# Altium schematic symbol library ECE453-Interface.SchLib: 29 symbols
Pins are listed as number, name and electrical type; pins without a type are passive.

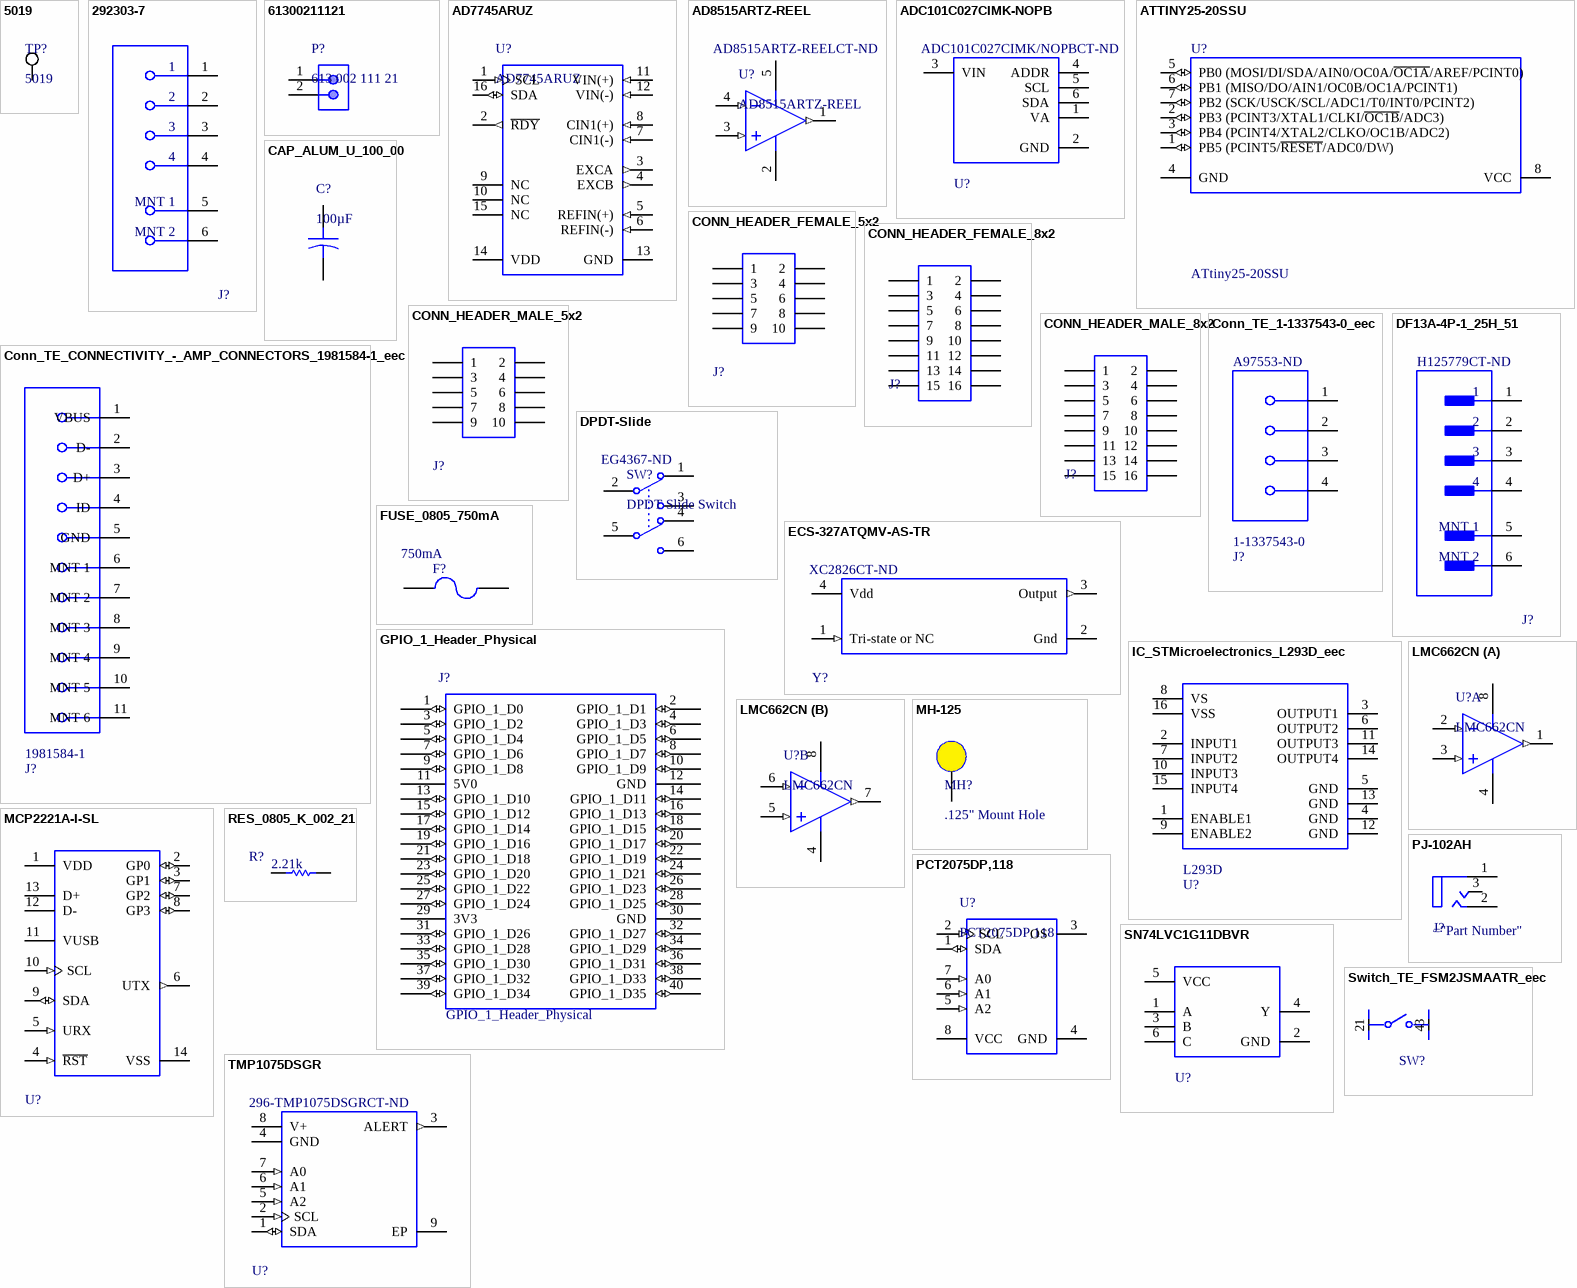
[diagram p0: symbols 5019 to TMP1075DSGR]

## 5019
designator TP?
Test Point, 1 Position SMD, RoHS, Tape and Reel; RoHSCompliant: True; ComponentLink1Description: Manufacturer URL; ComponentLink2Description: Datasheet; Package Quantity: 1000; Mount: Surface Mount; DatasheetVersion: 03/2014; ComponentLink1URL: http://www.keyelco.com/; Packaging: Tape and Reel; Contact Plating: Silver; Pins: 1; Mounting Technology: Surface Mount; PackageDescription: 1-Pin Surface Mount Device, Body 3.81 x 2.03 mm; ComponentLink2URL: http://www.keyelco.com/product-pdf.cfm?p=1357; PackageReference: 5019; PartNumber: 5019
footprint KSTN-5019_V
pins: 1

## 292303-7
designator J?  (value not drawn)
USB 2.0
pins: 1, 2, 3, 4, 5 MNT 1, 6 MNT 2

## 61300211121
designator P?, comment 613 002 111 21
Male Header, Pitch 2.54 mm, 1 x 2 Position, Height 8.54 mm, Tail Length 3 mm, -40 to 105 degC, RoHS, Bulk; ComponentLink1Description: Manufacturer URL; ComponentLink2Description: Datasheet; DatasheetVersion: Rev. J; ComponentLink1URL: https://www.we-online.com/; ComponentLink2URL: http://katalog.we-online.de/em/datasheet/6130xx11121.pdf; Mounting Technology: Through Hole; PackageDescription: Male Header, Pitch 2.54 mm, 1 x 2 Position, Height 8.54 mm, Tail Length 3 mm; PartNumber: 613 002 111 21
footprint WE-61300211121_V
pins: 1, 2

## AD7745ARUZ
designator U?
Single 24-Bit Capacitance-to-Digital Converter with I2C/Ser 2-Wire, Serial Interface and Temperature Sensor, 90SPS, -40 to +125 degC, RU-16, Pb-Free, Tube; Manufacturer: Analog Devices; Generic Part Number: AD7745; Resolution (Bits): 24; Throughput Rate (SPS): 90; Channels: 1; ComponentLink4Description: Product URL; PartNumber: AD7745ARUZ; PackageVersion: Nov-2002; ComponentLink1Description: Manufacturer URL; ComponentLink2Description: Datasheet; DatasheetVersion: Rev.0; ComponentLink3URL: http://www.analog.com/static/imported-files/packages/36244347913743854010197452789RU16.pdf; ComponentLink1URL: http://www.analog.com/en/index.html; Code_JEDEC: MO-153-AB; Packing: Tube; Interface: I2C/Ser 2-Wire, Ser; ComponentLink4URL: http://www.analog.com/en/analog-to-digital-converters/ad-converters/ad7745/products/product.html; ComponentLink2URL: http://www.analog.com/static/imported-files/data_sheets/AD7745_7746.pdf; ComponentLink3Description: Package Specification; RoHS: Y; Mounting Technology: Surface Mount; PackageReference: RU-16; PackageDescription: 16-Lead Thin Shrink Small Outline Package [TSSOP]
footprint RU-16_M
footprint RU-16_N
footprint RU-16_L
pins: 1 SCL (in) "Serial Interface Clock Input. Connects to the master clock line. Requires pull-up resistor if not already provided in the system.", 2 ~{RDY} (out) "Logic Output. A falling edge on this output indicates that a conversion on enabled channel(s) has been finished and the new data is available. Alternatively, the status register can be read via the 2-wire serial interface (See Datasheet)", 3 EXCA (out) "CDC Excitation Outputs. The measured capacitance is connected between one of the EXC pins and one of the CIN pins. If not used, these pins should be left as an open circuit.", 4 EXCB (out) "CDC Excitation Outputs. The measured capacitance is connected between one of the EXC pins and one of the CIN pins. If not used, these pins should be left as an open circuit.", 5 REFIN(+) (in) "Differential Voltage Reference Input for the Voltage Channel (ADC). Alternatively, the on-chip internal reference can be used for the voltage channel. These reference input pins are not used for conversion on capacitive (See Datasheet)", 6 REFIN(-) (in) "Differential Voltage Reference Input for the Voltage Channel (ADC). Alternatively, the on-chip internal reference can be used for the voltage channel. These reference input pins are not used for conversion on capacitive (See Datasheet)", 7 CIN1(-) (in) "CDC Negative Capacitive Input in Differential Mode. This pin is internally disconnected in single-ended CDC configuration. If not used, this pin can be left as an open circuit or connected to GND.", 8 CIN1(+) (in) "CDC Capacitive Input (in Single-Ended Mode) or Positive Capacitive Input (in Differential Mode). The measured capacitance is connected between one of the EXC pins and one of the CIN pins. If not used, this pin can be left as (See Datasheet)", 9 NC "Not Connected. This pin should be left as an open circuit.", 10 NC "Not Connected. This pin should be left as an open circuit.", 11 VIN(+) (in) "Differential Voltage Input for the Voltage Channel (ADC). These pins are also used to connect an external temperature sensing diode. If not used, these pins can be left as an open circuit or connected to GND.", 12 VIN(-) (in) "Differential Voltage Input for the Voltage Channel (ADC). These pins are also used to connect an external temperature sensing diode. If not used, these pins can be left as an open circuit or connected to GND.", 13 GND (power) "Ground Pin.", 14 VDD (power) "Power Supply Voltage. This pin should be decoupled to GND, using a low impedance capacitor, for example in combination with a 10 uF tantalum and a 0.1 uF multilayer ceramic.", 15 NC "Not Connected. This pin should be left as an open circuit.", 16 SDA (io) "Serial Interface Bidirectional Data. Connects to the master data line. Requires a pull-up resistor if not provided elsewhere in the system."

## AD8515ARTZ-REEL
designator U?  Supplier Part Number 1: AD8515ARTZ-REELCT-ND
Single Channel RRIO Operational Amplifier, 5 MHz BW, 2.7 V/us SR, Industrial, 5-pin SOT23 (RJ-5), Reel; Generic Part Number: AD8515; Manufacturer: Analog Devices; Amplifiers Per Package: 1; Small Signal Bandwidth: 5MHz; V Span Min: 1.8V; Iq/Amp: 500uA; Input Bias Current: 2pA; V Span Max: 6V; Input Offset Voltage: 1mV; ComponentLink4Description: URL Link1; PartNumber: AD8515ARTZ-REEL; ComponentLink1Description: Manufacturer URL; ComponentLink2Description: Datasheet; DatasheetVersion: Rev. D; ComponentLink3URL: http://www.analog.com/static/imported-files/packages/PKG_PDF/SOT-23(RJ)/RJ_5.pdf; ComponentLink3Description: Package Specification; ComponentLink1URL: http://www.analog.com/en/index.html; Code_JEDEC: MO-178-AA; ComponentLink4URL: Reference Circuit:http://www.analog.com/en/all-operational-amplifiers-op-amps/operational-amplifiers-op-amps/ad8515/products/product.html#product-recommendations; ComponentLink2URL: http://www.analog.com/static/imported-files/data_sheets/AD8515.pdf; PackageVersion: 121608-A; Slew Rate: 2.7V/us; Mounting Technology: Surface Mount; PackageReference: RJ-5; PackageDescription: 5-Pin Small Outline Transistor Package, Body 2.9 x 1.6 mm, Pitch 0.95 mm; Supplier 1: Digi-Key
footprint ADI-RJ-5_L
footprint ADI-RJ-5_M
footprint ADI-RJ-5_L (amplify capicatance signal)
pins: 1 OUT (out), 2 -V (power), 3 +IN (in), 4 -IN (in), 5 +V (power)

## ADC101C027CIMK-NOPB
designator U?  Supplier Part Number 1: ADC101C027CIMK/NOPBCT-ND  (hidden comment: *)
a2d for pH; Supplier 1: Digi-Key
footprint Texas_Instruments_DDC0006A_0 (a2d for ph)
pins: 1 VA, 2 GND, 3 VIN, 4 ADDR, 5 SCL, 6 SDA

## ATTINY25-20SSU
designator U?, comment ATtiny25-20SSU
8-bit AVR Microcontroller, 2.7-5.5V, 2KB Flash, 128 Bytes EEPROM, 128 Bytes SRAM, 8-pin SOIC, Industrial Grade (-40°C to 85°C), Pb-Free; DatasheetVersion: revK, Jan-2008; Code_JEDEC: MS-012; Code_IPC: SOIC127P600-8; PackageVersion: revA, Oct-2001; PackageDescription: 8-Lead (0.150" Wide Body), Plastic Gull Wing Small Outline (JEDEC SOIC); PackageReference: S8S1; PartNumber: ATTINY25-20SSU
footprint S8S1_M
footprint S8S1_N (moisture sensor mcu)
pins: 1 PB5 (PCINT5/~{RESET}/ADC0/DW) (io), 2 PB3 (PCINT3/XTAL1/CLKI/~{OC1B}/ADC3) (io), 3 PB4 (PCINT4/XTAL2/CLKO/OC1B/ADC2) (io), 4 GND (power), 5 PB0 (MOSI/DI/SDA/AIN0/OC0A/~{OC1A}/AREF/PCINT0) (io), 6 PB1 (MISO/DO/AIN1/OC0B/OC1A/PCINT1) (io), 7 PB2 (SCK/USCK/SCL/ADC1/T0/INT0/PCINT2) (io), 8 VCC (power)

## CAP_ALUM_U_100_00
designator C?, comment 100µF
CAP ALUM 100UF 20% 10V SMD; Manufacturer: Panasonic Electronic Components; Manufacturer Part Number: EEE-1AA101WR; Lifetime @ Temp.: 1000 Hrs @ 85°C; Ripple Current: 50mA; Surface Mount Land Size: 0.209" L x 0.209" W (5.30mm x 5.30mm); Supplier 1: Digi-Key; Supplier Part Number 1: PCE3867CT-ND; RoHS: RoHS Compliant; Category: Capacitors; Stock 1: 104778; Pricing 1: 1=0.44, 10=0.345, 25=0.2904, 50=0.249, 100=0.2076, 250=0.15568, 500=0.13284 (USD); Packaging: Cut Tape (CT); Value: 100µF; Tolerance: ±20%; Voltage Rating: 10V; ESR (Equivalent Series Resistance): -; Operating Temperature: -40°C ~ 85°C; Type: -; Applications: Automotive; Impedance: -; Lead Spacing: -; Size / Dimension: 0.197" Dia (5.00mm); Height - Seated (Max): 0.213" (5.40mm); Mounting Type: Surface Mount; Package / Case: Radial, Can - SMD; ComponentLink1URL: http://media.digikey.com/pdf/Data%20Sheets/Panasonic%20Electronic%20Components/S_Series_Type_V.pdf; ComponentLink1Description: http://media.digikey.com/pdf/Data%20Sheets/Panasonic%20Electronic%20Components/S_Series_Type_V.pdf
footprint PANACAP-C
pins: + 1, - 2

## CONN_HEADER_FEMALE_5x2
designator J?  (value not drawn)
CONN HEADER 2.54MM 10POS GOLD; Manufacturer Part Number: SBH11-PBPC-D05-ST-BK; Manufacturer: Sullins Connector Solutions; Pitch: 0.100" (2.54mm); Number of Positions: 10; Number of Positions Loaded: All; Connector Type: Header, Shrouded; Contact Mating Length: -; Fastening Type: -; Termination: Solder; Mounting Type: Through Hole; Color: Black; Contact Finish Thickness: Flash; Row Spacing: 0.100" (2.54mm); Contact Finish: Gold; Number of Rows: 2; Features: Polarizing Key; Contact Type: Male Pin; Supplier: Digi-Key; Category: Connectors, Interconnects; Packaging: Tray; Part Status: Active; RoHS: RoHS Compliant; Supplier Part Number: S9169-ND
footprint SFH11-PBPC-D05-ST-BK (CONN HEADR FMALE 10POS .1" DL AU)
pins: 1, 2, 3, 4, 5, 6, 7, 8, 9, 10

## CONN_HEADER_FEMALE_8x2
designator J?  (value not drawn)
CONN HEADER 2.54MM 16POS GOLD; Manufacturer: Sullins Connector Solutions; Manufacturer Part Number: SBH11-PBPC-D08-ST-BK; Pitch: 0.100" (2.54mm); Number of Positions Loaded: All; Number of Positions: 16; Connector Type: Header, Shrouded; Contact Finish Thickness: Flash; Contact Mating Length: -; Fastening Type: -; Contact Finish: Gold; Packaging: Tray; Row Spacing: 0.100" (2.54mm); RoHS: RoHS Compliant; Contact Type: Male Pin; Category: Connectors, Interconnects; Part Status: Active; Features: Polarizing Key; Color: Black; Mounting Type: Through Hole; Supplier: Digi-Key; Termination: Solder; Number of Rows: 2; Supplier Part Number: S9171-ND
footprint SFH11-PBPC-D08-ST-BK (CONN HEADR FMALE 16POS .1" DL AU)
pins: 1, 2, 3, 4, 5, 6, 7, 8, 9, 10, 11, 12, 13, 14, 15, 16

## CONN_HEADER_MALE_5x2
designator J?  (value not drawn)
CONN HEADER 2.54MM 10POS GOLD; Manufacturer Part Number: SBH11-PBPC-D05-ST-BK; Manufacturer: Sullins Connector Solutions; Pitch: 0.100" (2.54mm); Number of Positions: 10; Number of Positions Loaded: All; Connector Type: Header, Shrouded; Contact Mating Length: -; Fastening Type: -; Termination: Solder; Mounting Type: Through Hole; Color: Black; Contact Finish Thickness: Flash; Row Spacing: 0.100" (2.54mm); Contact Finish: Gold; Number of Rows: 2; Features: Polarizing Key; Contact Type: Male Pin; Supplier: Digi-Key; Category: Connectors, Interconnects; Packaging: Tray; Part Status: Active; RoHS: RoHS Compliant; Supplier Part Number: S9169-ND
footprint SBH11-PBPC-D05-ST-BK (Connector; Header; 5x2 Position)
pins: 1, 2, 3, 4, 5, 6, 7, 8, 9, 10

## CONN_HEADER_MALE_8x2
designator J?  (value not drawn)
CONN HEADER 2.54MM 16POS GOLD; Manufacturer: Sullins Connector Solutions; Manufacturer Part Number: SBH11-PBPC-D08-ST-BK; Pitch: 0.100" (2.54mm); Number of Positions Loaded: All; Number of Positions: 16; Connector Type: Header, Shrouded; Contact Finish Thickness: Flash; Contact Mating Length: -; Fastening Type: -; Contact Finish: Gold; Packaging: Tray; Row Spacing: 0.100" (2.54mm); RoHS: RoHS Compliant; Contact Type: Male Pin; Category: Connectors, Interconnects; Part Status: Active; Features: Polarizing Key; Color: Black; Mounting Type: Through Hole; Supplier: Digi-Key; Termination: Solder; Number of Rows: 2; Supplier Part Number: S9171-ND
footprint SBH11-PBPC-D08-ST-BK (Connector; Header; 8x2 Position)
pins: 1, 2, 3, 4, 5, 6, 7, 8, 9, 10, 11, 12, 13, 14, 15, 16

## Conn_TE_1-1337543-0_eec
designator J?  Part Number: 1-1337543-0  Supplier Part Number 1: A97553-ND
CONN BNC JACK R/A 50 OHM PCB; Manufacturer: TE; Is Female: yes; Category 7E2Eb3244B2Ba5E9: RF/Coaxial; Category 75Fab8F04590Ae3D: Connectors and Adapters; Num Pins: 2; Category 0836C53C3D42D3F1: Connectors; helpURL: https://upverter.com/upn/revision/e21dde95074d668f/; ComponentLink2Description: Datasheet; Temperature: -55°C to +85°C; Package: BNC_PTH_14MM7_34MM9; Price: 1.52364979765; ComponentLink1URL: https://upverter.com/upn/revision/e21dde95074d668f/; ComponentLink1Description: Upverter; ComponentLink2URL: http://www.te.com/commerce/DocumentDelivery/DDEController?Action=showdoc&DocId=Customer+Drawing%7F1337543%7FG%7Fpdf%7FEnglish%7FENG_CD_1337543_G.pdf%7F1-1337543-0; RoHS: TRUE; Mouser Part Number: 571-1-1337543-0; Temperature Range High: +85°C; Digikey Description: CONN BNC JACK R/A 50 OHM PCB; Digikey Part Number: A97553-ND; Lead Free: yes; Category 56939B9963988D54: BNC; Temperature Range Low: -55°C; Mounting Type: pc board; Octopart Part Number: b01d790ac89a6fda; Supplier 1: Digi-Key
footprint TE_1-1337543-0_0
footprint TE_1-1337543-0_0 (bnc connector)
pins: 1, 2, 3 MNT 1, 4 MNT 2

## Conn_TE_CONNECTIVITY_-_AMP_CONNECTORS_1981584-1_eec
designator J?  Part Number: 1981584-1
Micro USB2.0; Manufacturer: TE CONNECTIVITY - AMP CONNECTORS; Voltage: 30V; Is Female: yes; helpURL: https://upverter.com/upn/revision/dedb0eacb1b6d15a/; ComponentLink2Description: Datasheet; Temperature: to; Package: CONN_USB_SMT; Supplier 2: Mouser; Price: 1.40015774577; Supplier 1: Digi-Key; ComponentLink1URL: https://upverter.com/upn/revision/dedb0eacb1b6d15a/; Supplier Part Number 1: A97799CT-ND; ComponentLink1Description: Upverter; ComponentLink2URL: http://www.te.com/commerce/DocumentDelivery/DDEController?Action=srchrtrv&DocNm=1981584&DocType=Customer+Drawing&DocLang=English; RoHS: UNKNOWN; Mouser Part Number: 571-1981584-1; Operating Temperature Low: -30°C; Digikey Part Number:: A97799CT-ND; Operating Temperature High: 85°C
footprint TE_CONNECTIVITY_-_AMP_CONNECTORS_1981584-1_0
pins: 1 VBUS, 2 D-, 3 D+, 4 ID, 5 GND, 6 MNT 1, 7 MNT 2, 8 MNT 3, 9 MNT 4, 10 MNT 5, 11 MNT 6

## DF13A-4P-1_25H_51
designator J?  Supplier Part Number 1: H125779CT-ND  (hidden comment: *)
4 pin df13; Supplier 1: Digi-Key
footprint Hirose_0_MFG (4 pin df13)
pins: 1, 2, 3, 4, 5 MNT 1, 6 MNT 2

## DPDT-Slide
designator SW?, comment DPDT Slide Switch  Supplier Part Number 1: EG4367-ND
Manufacturer: E-Switch; Manufacturer Part Number: EG2219; Contact Timing: Non-Shorting (BBM); Switch Function: On-On; Current Rating: 500mA (DC); Voltage Rating - DC: 15V; Actuator Type: Standard; Actuator Length: 9.00mm; Switch Travel: 4.00mm; Operating Force: 250gf; Supplier 1: Digi-Key; RoHS: RoHS Compliant; Category: Switches; Stock 1: 488; Pricing 1: 1=0.8, 10=0.768, 25=0.752, 50=0.672, 100=0.64, 250=0.624, 500=0.528, 1000=0.512, 5000=0.448 (USD); Packaging: Bulk; Part Status: Active; Circuit: DPDT; Voltage Rating - AC: -; Contact Material: Copper Alloy; Contact Finish: Silver; Mounting Type: Through Hole, Right Angle; Termination Style: PC Pin; Features: -; Actuator Material: -; Operating Temperature: -20°C ~ 70°C; Mechanical Life: -; Electrical Life: -; ComponentLink1URL: http://spec_sheets.e-switch.com/specs/P040170.pdf; ComponentLink1Description: http://spec_sheets.e-switch.com/specs/P040170.pdf
footprint SLIDE6X4X2.5 (E-Switch EG2219)
pins: 1, 2 C, 3, 4, 5 C, 6

## ECS-327ATQMV-AS-TR
designator Y?  Supplier Part Number 1: XC2826CT-ND  (hidden comment: *)
crystal oscillator; Supplier 1: Digi-Key
footprint ECS_327ATQMV_MFG (crystal)
pins: 1 Tri-state or NC (in), 2 Gnd (power), 3 Output (out), 4 Vdd (power)

## FUSE_0805_750mA
designator F?, comment 750mA
PTC RESTTBLE 0.75A 6V CHIP 0805; Manufacturer: Bel Fuse Inc.; Manufacturer Part Number: 0ZCK0075FF2E; Current - Max: 40A; Current - Trip (It): 1.5A; R Min/Max: 0.090 ~ 0.350 Ohm; Time to Trip: 0.2s; Supplier 1: Digi-Key; Supplier Part Number 1: 507-1814-1-ND; RoHS: RoHS Compliant; Category: Circuit Protection; Stock 1: 18309; Pricing 1: 1=0.19, 10=0.176, 25=0.1628, 100=0.1463, 250=0.13028, 500=0.10858, 1000=0.10288 (USD); Packaging: Cut Tape (CT); Voltage - Max: 6V; Package / Case: 0805 (2012 Metric), Concave; ComponentLink1URL: http://www.belfuse.com/pdfs/0ZCK.pdf; ComponentLink1Description: http://www.belfuse.com/pdfs/0ZCK.pdf; Current - Hold (Ih) (Max): 750mA
footprint FUSE_0805 (Chip Fuse, 2-Leads, Body 2.15x1.35mm, IPC Low Density)
pins: 1, 2

## GPIO_1_Header_Physical
designator J?  value GPIO_1_Header_Physical
2x20 Polarized Female .100" Connector; Manufacturer: Sullins Connector Solutions; Manufacturer Part Number: SFH11-PBPC-D20-ST-BK; Connector Type: Header; Number of Positions: 40; Number of Positions Loaded: All; Pitch: 0.100" (2.54mm); Supplier 1: Digi-Key; Supplier Part Number 1: S9200-ND; RoHS: RoHS Compliant; Category: Connectors, Interconnects; Stock 1: 3855; Pricing 1: 1=2.31, 10=1.913, 25=1.7932, 50=1.594, 100=1.4346, 250=1.32304, 500=1.1955, 1000=1.06001, 2500=1.01618 (USD); Packaging: Tray; Contact Type: Female Socket; Number of Rows: 2; Row Spacing: 0.100" (2.54mm); Mounting Type: Through Hole; Termination: Solder; Fastening Type: -; Features: Polarizing Key; Contact Finish: Gold; Contact Finish Thickness: Flash; Color: Black; ComponentLink1URL: http://sullinscorp.com/catalogs/146_PAGE119_.100_SFH11_SERIES_FEMALE_HDR_ST_RA.pdf; ComponentLink1Description: http://sullinscorp.com/catalogs/146_PAGE119_.100_SFH11_SERIES_FEMALE_HDR_ST_RA.pdf
footprint DIP40
pins: 1 GPIO_1_D0 (io), 2 GPIO_1_D1 (io), 3 GPIO_1_D2 (io), 4 GPIO_1_D3 (io), 5 GPIO_1_D4 (io), 6 GPIO_1_D5 (io), 7 GPIO_1_D6 (io), 8 GPIO_1_D7 (io), 9 GPIO_1_D8 (io), 10 GPIO_1_D9 (io), 11 5V0, 12 GND (power), 13 GPIO_1_D10 (io), 14 GPIO_1_D11 (io), 15 GPIO_1_D12 (io), 16 GPIO_1_D13 (io), 17 GPIO_1_D14 (io), 18 GPIO_1_D15 (io), 19 GPIO_1_D16 (io), 20 GPIO_1_D17 (io), 21 GPIO_1_D18 (io), 22 GPIO_1_D19 (io), 23 GPIO_1_D20 (io), 24 GPIO_1_D21 (io), 25 GPIO_1_D22 (io), 26 GPIO_1_D23 (io), 27 GPIO_1_D24 (io), 28 GPIO_1_D25 (io), 29 3V3, 30 GND (power), 31 GPIO_1_D26 (io), 32 GPIO_1_D27 (io), 33 GPIO_1_D28 (io), 34 GPIO_1_D29 (io), 35 GPIO_1_D30 (io), 36 GPIO_1_D31 (io), 37 GPIO_1_D32 (io), 38 GPIO_1_D33 (io), 39 GPIO_1_D34 (io), 40 GPIO_1_D35 (io)

## IC_STMicroelectronics_L293D_eec
designator U?  Part Number: L293D
4-Channel Motor Driver 24V 16-Pin Power DIP Tube; Manufacturer: STMicroelectronics; Category 9E07530Daf1645C0: Semiconductors and Actives; Category 45Fa88F0772B9E3D: Half Bridges; Category 20B3Edb914A9Fb74: Uncategorized; Category 2Fc5E2Cf1B85F402: Interface ICs; Category 56439B4967F48D84: Power Management; Category D2Bc1Fb6E06F097B: Solid State Switches; Symbol 0 0: Standard; Num Pins: 16; Max Supply Voltage: 36V; Min Supply Voltage: 4.5V; Number of Outputs: 4; Output Current: 600mA; Max Output Current: 1.2A; Motor Type: Brushed; Operating Supply Current: 2mA; Power Dissipation: 4W; helpURL: https://upverter.com/upn/revision/e6134e389598ca22/; ComponentLink2Description: Datasheet; Temperature: -40°C to +150°C; Package: Powerdip (12+2+2); Supplier 2: Mouser; Price: 2.80087938713; Supplier 1: Digi-Key; ComponentLink1URL: https://upverter.com/upn/revision/e6134e389598ca22/; Supplier Part Number 2: 511-L293D; Supplier Part Number 1: 497-2936-5-ND; ComponentLink1Description: Upverter; ComponentLink2URL: https://upverter.com/datasheet/69b4bfb6eef435fc169310577e03cbf66990c4fa.pdf; RoHS: TRUE; Mouser Part Number: 511-L293D; Ipc Land Pattern Name: DIP880W50P254L2000H510Q16; Category 84F649Fcb0Ed5F31: Uncategorized; Octopart Part Number: 81d548d881985e12; Temperature Range High: +150°C; Digikey Description: IC Bipolar Motor Driver Parallel 16-PowerDIP; Digikey Part Number: 497-2936-5-ND; Type: integrated circuit; Lead Free: yes; Temperature Range Low: -40°C; Mounting Type: Through Hole; Manufacturer Part Number: L293D; Category: Motor Drivers; Stock 1: 710; Pricing 1: 1=4.15000, 10=3.72300, 25=3.52000, 100=2.95180 (USD); Mount: Through Hole; Case/Package: DIP; Number of Pins: 16; Min Operating Temperature: -40°C; Max Operating Temperature: 150°C; Package Quantity: 25; Packaging: Rail/Tube; Operating Supply Voltage: 24V; Series: -; Output Current per Channel: 600mA; Number of Channels: 4; Max Collector Current: 600mA; Collector Emitter Voltage (VCEO): 36V; Length: 20mm; Width: 7.1mm; Height: 5.1mm; Radiation Hardening: No; RoHS Compliant: Yes; ComponentLink3URL: https://datasheet.ciiva.com/15109/getdatasheetpartid-121660-15109379.pdf?src-supplier=Verical; ComponentLink3Description: https://datasheet.ciiva.com/15109/getdatasheetpartid-121660-15109379.pdf?src-supplier=Verical; ComponentLink4URL: https://datasheet.ciiva.com/14150/ocl293d-647107-dat-en-14150297.pdf?src-supplier=Distrelec; ComponentLink4Description: https://datasheet.ciiva.com/14150/ocl293d-647107-dat-en-14150297.pdf?src-supplier=Distrelec; ComponentLink5URL: https://datasheet.ciiva.com/26347/82-0192-26347871.pdf?src-supplier=Rapid+Electronics; ComponentLink5Description: https://datasheet.ciiva.com/26347/82-0192-26347871.pdf?src-supplier=Rapid+Electronics; ComponentLink6URL: https://datasheet.ciiva.com/29307/156134-da-01-en-4-kanal-treiber-ic-l293d-stm-29307000.pdf?src-supplier=Conrad; ComponentLink6Description: https://datasheet.ciiva.com/29307/156134-da-01-en-4-kanal-treiber-ic-l293d-stm-29307000.pdf?src-supplier=Conrad; ComponentLink7URL: https://datasheet.ciiva.com/1955/cd00000059-1955400.pdf?src-supplier=Digi-Key; ComponentLink7Description: https://datasheet.ciiva.com/1955/cd00000059-1955400.pdf?src-supplier=Digi-Key; ComponentLink8URL: https://datasheet.ciiva.com/4895/cd00000059-4895945.pdf?src-supplier=Mouser; ComponentLink8Description: https://datasheet.ciiva.com/4895/cd00000059-4895945.pdf?src-supplier=Mouser; ComponentLink9URL: https://datasheet.ciiva.com/16458/cd00000059-16458220.pdf?src-supplier=Future+Electronics; ComponentLink9Description: https://datasheet.ciiva.com/16458/cd00000059-16458220.pdf?src-supplier=Future+Electronics
footprint STMicroelectronics_L293D_0
pins: 1 ENABLE1, 2 INPUT1, 3 OUTPUT1, 4 GND, 5 GND, 6 OUTPUT2, 7 INPUT2, 8 VS, 9 ENABLE2, 10 INPUT3, 11 OUTPUT3, 12 GND, 13 GND, 14 OUTPUT4, 15 INPUT4, 16 VSS

## LMC662CN
designator U?
CMOS Dual Operational Amplifier, 8-pin MDIP; Manufacturer: National Semiconductor; PackageTopMarking: NSUZXYTTE#*LMC*662CN; PowerWise: N; CompType: Amplifiers; PinCount: 8; DatasheetVersion: Apr-2003; Code_JEDEC: MS-001-BA; PackageVersion: revG, May-2006; PackageReference: N08E; PackageDescription: MDIP, .365 x .250 x .130in, 8 Lead, .100in Pitch; RoHS: N; PartNumber: LMC662CN
footprint N08E
pins on every part: 4 V- (power), 8 V+ (power)
part A pins: 1 OUTA (out), 2 INA- (in), 3 INA+ (in)
part B pins: 5 INB+ (in), 6 INB- (in), 7 OUTB (out)

## MCP2221A-I-SL
designator U?  (value not drawn)
USB to UART
pins: 1 VDD (power), 2 GP0 (io), 3 GP1 (io), 4 ~{RST} (in), 5 URX (in), 6 UTX (out), 7 GP2 (io), 8 GP3 (io), 9 SDA (io), 10 SCL (in), 11 VUSB (power), 12 D- (power), 13 D+ (power), 14 VSS (power)

## MH-125
designator MH?, comment .125" Mount Hole
.125" Mount Hole with .300" Keepout
footprint MTHOLE_125-300KeepOut (0.125 in Hole w 0.300 Keep Out)
pins: 1 "Pin 1"

## PCT2075DP,118
designator U?
I2C-Bus Fm+, 1 Degree C Accuracy, Digital Temperature Sensor and Thermal Watchdog, 2.7 to 5.5 V Supply, -55 to 125 degC, 8-Pin SOT505-1, RoHS, Reel; Manufacturer: NXP Semiconductors; Accuracy on-chip (degC): 1@-25 to 100 / 2@-55 to 125; SMBus clock (kHz): 1000; Assignable addresses: 27; ComponentLink1Description: Manufacturer URL; Operating Voltage (VDC): 2.7 to 5.5; ComponentLink2Description: Datasheet; PartNumber: PCT2075DP,118; ComponentLink3Description: Package Specification; PackageReference: SOT505-1; ComponentLink3URL: http://www.nxp.com/documents/outline_drawing/sot505-1_po.pdf; DatasheetVersion: Rev. 7; ComponentLink1URL: http://www.nxp.com/; ComponentLink2URL: http://www.nxp.com/documents/data_sheet/PCT2075.pdf; Packing: Reel; Mounting Technology: Surface Mount; PackageDescription: 8-Pin Plastic Thin Shrink Small Outline Package, Body 3 x 3 mm, Pitch 0.65 mm; PackageVersion: 03-02-18, 02/2003
footprint NXP-SOT505-1_M
footprint NXP-SOT505-1_N
footprint NXP-SOT505-1_L
footprint NXP-SOT505-1_N (TSOP, 8-Leads, Body 3.1x3.1mm, Pitch 0.65mm, IPC Medium Density)
pins: 1 SDA (io) "Digital I/O. I2C-bus serial bidirectional data line; open-drain.", 2 SCL (in) "Digital input. I2C-bus serial clock input.", 3 OS (oc) "Overtemp Shutdown output; open-drain.", 4 GND (power) "Ground. To be connected to the system ground.", 5 A2 (in) "Digital input. User-defined address bit 2.", 6 A1 (in) "Digital input. User-defined address bit 1.", 7 A0 (in) "Digital input. User-defined address bit 0.", 8 VCC (power) "Power supply."

## PJ-102AH
designator J?  (value not drawn)
footprint CUI_PJ-102AH_0
pins: 1, 2, 3

## RES_0805_K_002_21
designator R?  value 2.21k
RES SMD 2.21K OHM 1% 1/8W 0805; Manufacturer: Yageo; Manufacturer Part Number: RC0805FR-072K21L; Power (Watts): 0.125W, 1/8W; Temperature Coefficient: ±100ppm/°C; Supplier 1: Digi-Key; Supplier Part Number 1: 311-2.21KCRCT-ND; RoHS: RoHS Compliant; Category: Resistors; Stock 1: 159809; Pricing 1: 1=0.1, 10=0.021, 25=0.0152, 100=0.0084, 250=0.00644, 500=0.00514, 1000=0.00379, 2500=0.00329 (USD); Packaging: Cut Tape (CT); Tolerance: ±1%; Composition: Thick Film; Features: Moisture Resistant; Operating Temperature: -55°C ~ 155°C; Package / Case: 0805 (2012 Metric); Supplier Device Package: 0805; Size / Dimension: 0.079" L x 0.049" W (2.00mm x 1.25mm); Height: 0.024" (0.60mm); Number of Terminations: 2; ComponentLink1URL: http://www.yageo.com/NewPortal/yageodocoutput?fileName=/pdf/R-Chip/PYu-RC_Group_51_RoHS_L_3.pdf; ComponentLink1Description: http://www.yageo.com/NewPortal/yageodocoutput?fileName=/pdf/R-Chip/PYu-RC_Group_51_RoHS_L_3.pdf
footprint RES_0805 (Chip Resistor, 2-Leads, Body 2.00x1.25mm, IPC Medium Density)
pins: 1, 2

## SN74LVC1G11DBVR
designator U?  (value not drawn)
3 to 1 AND Gate
pins: 1 A, 2 GND, 3 B, 4 Y, 5 VCC, 6 C

## Switch_TE_FSM2JSMAATR_eec
designator SW?
SWITCH TACTILE SPST-NO 0.05A 24V; Part Number: FSM2JSMAATR; Manufacturer: TE; helpURL: https://upverter.com/upn/revision/e87fdb98fc0d886d/; ComponentLink2Description: Datasheet; Temperature: -35°C to +85°C; Package: SW_SMT_TACT; Supplier 2: Mouser; Supplier 1: Digi-Key; ComponentLink1URL: https://upverter.com/upn/revision/e87fdb98fc0d886d/; Supplier Part Number 2: 506-FSM2JSMAATR; Supplier Part Number 1: 450-1792-1-ND; ComponentLink1Description: Upverter; ComponentLink2URL: http://www.te.com/commerce/DocumentDelivery/DDEController?Action=srchrtrv&DocNm=2-1437565-7&DocType=Customer+Drawing&DocLang=English; RoHS: TRUE; Mouser Part Number: 506-FSM2JSMAATR; Digikey Description: SWITCH TACTILE SPST-NO 0.05A 24V; Digikey Part Number: 450-1792-1-ND; Lead Free: yes; Temperature Range Low: -35°C; Temperature Range High: +85°C
footprint TE_FSM2JSMAATR_0
pins: 1, 2, 3, 4

## TMP1075DSGR
designator U?  Supplier Part Number 1: 296-TMP1075DSGRCT-ND  (hidden comment: *)
1°C I2C Temperature sensor with performance upgrades to industry standard LM75 / TMP75 8-WSON -55 to 125; Manufacturer: Texas Instruments; Manufacturer Part Number: TMP1075DSGR; Supplier 1: Digi-Key; RoHS: Yes; Category: Integrated Circuits (ICs); Stock 1: 11729; Pricing 1: 1=0.63000, 5=0.59600, 10=0.51800, 25=0.45520, 50=0.37800, 100=0.32200, 500=0.28000, 1000=0.24500 (USD)
pins: 1 SDA (io), 2 SCL (in), 3 ALERT (out), 4 GND (power), 5 A2 (in), 6 A1 (in), 7 A0 (in), 8 V+ (power), 9 EP